# EAGLE library part ADG444 (library noah)
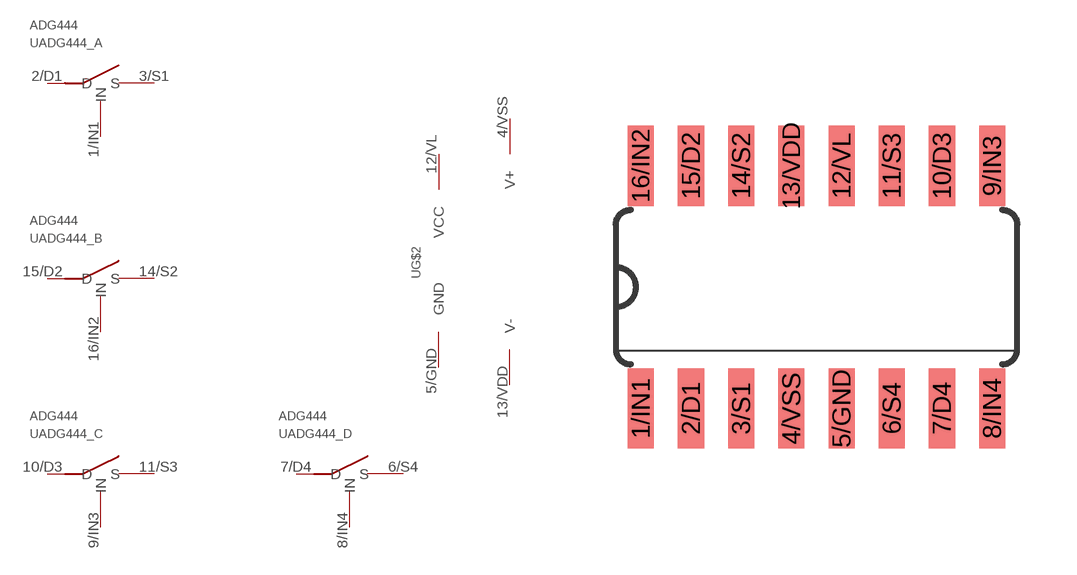
[diagram p3: symbol with the pads of ADG444; footprint ADG444]

Designator prefix -; gates G$1=V+/V- ADG444_A=ADG44X ADG444_B=ADG44X ADG444_C=ADG44X ADG444_D=ADG44X G$2=VCC-GND

## ADG444  [ADG444]
1/IN1  ADG444_A:IN
2/D1  ADG444_A:D
3/S1  ADG444_A:S
4/VSS  G$1:V+
5/GND  G$2:GND
6/S4  ADG444_D:S
7/D4  ADG444_D:D
8/IN4  ADG444_D:IN
9/IN3  ADG444_C:IN
10/D3  ADG444_C:D
11/S3  ADG444_C:S
12/VL  G$2:VCC
13/VDD  G$1:V-
14/S2  ADG444_B:S
15/D2  ADG444_B:D
16/IN2  ADG444_B:IN

## Footprint ADG444 (pad centres in mm)
smd 0.66 x 2.032: 1/IN1 -4.445,-3.073; 2/D1 -3.175,-3.073; 3/S1 -1.905,-3.073; 4/VSS -0.635,-3.073; 5/GND 0.635,-3.073; 6/S4 1.905,-3.073; 7/D4 3.175,-3.073; 8/IN4 4.445,-3.073; 9/IN3 4.445,3.073; 10/D3 3.175,3.073; 11/S3 1.905,3.073; 12/VL 0.635,3.073; 13/VDD -0.635,3.073; 14/S2 -1.905,3.073; 15/D2 -3.175,3.073; 16/IN2 -4.445,3.073